# EAGLE library part 61200621721 (library Wuerth_Elektronik_eiCan_05_Box_Header_IDC_Connectors_1_2)
WR-BHD 2.54mm Male Angled Box Header, 6 Pins
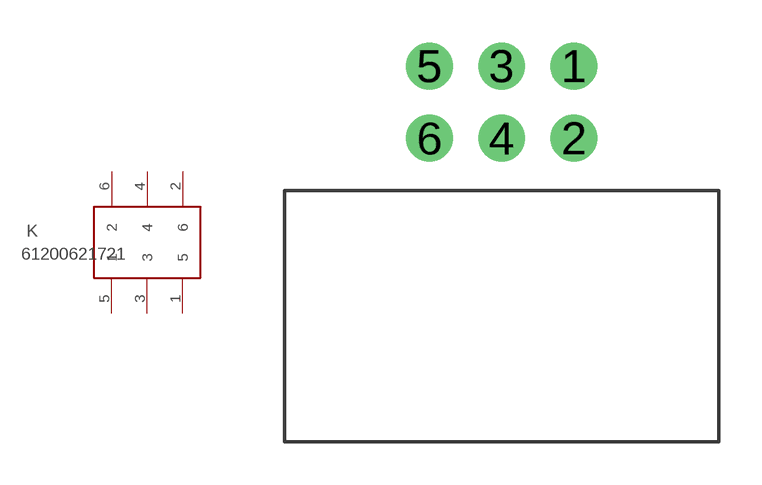
[diagram p89: symbol with the pads of 61200621721; footprint 61200621721]

Designator prefix K

## 61200621721  [61200621721]
1  5  pas
2  6  pas
3  3  pas
4  4  pas
5  1  pas
6  2  pas

## Footprint 61200621721 (pad centres in mm)
WR-BHD 2.54mm Male Angled Box Header, 6 Pins
drill 1.1: 1 2.54,1.27; 2 2.54,-1.27; 3 0,1.27; 4 0,-1.27; 5 -2.54,1.27; 6 -2.54,-1.27